# EAGLE library part TPS61100 (library 00shaunc)
TI Dual Output Step-Up Converter
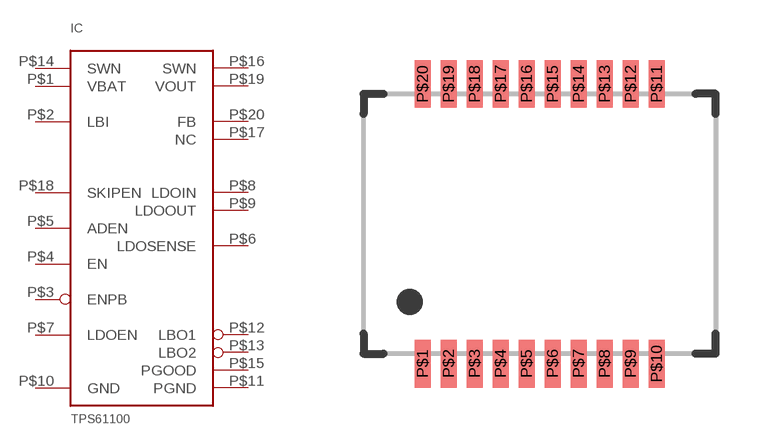
[diagram p2: symbol with the pads of TSSOP-20; footprint TSSOP-20]

Designator prefix IC

## TPS61100  [TSSOP-20]
P$1  VBAT  in
P$2  LBI  in
P$3  ENPB  in
P$4  EN  in
P$5  ADEN  in
P$6  LDOSENSE  in
P$7  LDOEN  in
P$8  LDOIN  in
P$9  LDOOUT  out
P$10  GND
P$11  PGND
P$12  LBO1  out
P$13  LBO2  out
P$14  SWN  in
P$15  PGOOD  out
P$16  SWN  in
P$17  NC  nc
P$18  SKIPEN  in
P$19  VOUT  out
P$20  FB  in

## Footprint TSSOP-20 (pad centres in mm)
smd 0.4 x 1.2: P$1 -2.6,-3.5; P$2 -1.95,-3.5; P$3 -1.3,-3.5; P$4 -0.65,-3.5; P$5 0,-3.5; P$6 0.65,-3.5; P$7 1.3,-3.5; P$8 1.95,-3.5; P$9 2.6,-3.5; P$10 3.25,-3.5; P$11 3.25,3.5; P$12 2.6,3.5; P$13 1.95,3.5; P$14 1.3,3.5; P$15 0.65,3.5; P$16 0,3.5; P$17 -0.65,3.5; P$18 -1.3,3.5; P$19 -1.95,3.5; P$20 -2.6,3.5